# EAGLE library part TP4056 (library TP4056)
LION Battery Charger IC TP4056
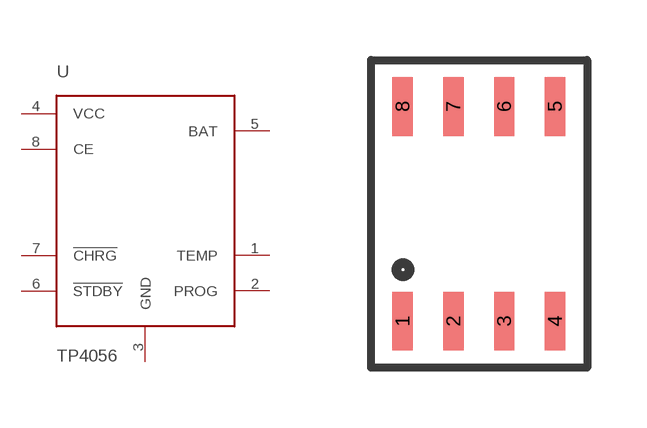
[diagram p0: symbol with the pads of SOIC8; footprint SOIC8]

Designator prefix -

## TP4056  [SOIC8]
1  TEMP
2  PROG
3  GND
4  VCC
5  BAT
6  !STDBY
7  !CHRG
8  CE

## Footprint SOIC8 (pad centres in mm)
smd 0.51 x 1.47: 1 -2.01,-2.585; 2 -0.74,-2.585; 3 0.53,-2.585; 4 1.8,-2.585; 5 1.8,2.785; 6 0.53,2.785; 7 -0.74,2.785; 8 -2.01,2.785